# Altium schematic symbol library 3digit_7seg_display.SchLib: 2 symbols
Pins are listed as number, name and electrical type; pins without a type are passive.

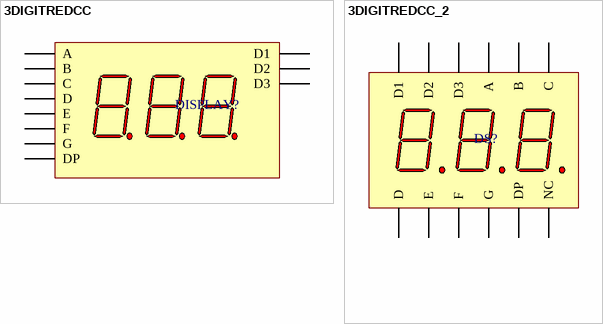
[diagram p0: symbols 3DIGITREDCC to 3DIGITREDCC_2]

## 3DIGITREDCC
designator DISPLAY?
7-Segment Display; MinimumIntensity: 360 ucd; Note: IF = 5 mA; Note: Pins 1 and 6 are redundant Cathodes.; Published: 8-Jun-2000; LatestRevisionDate: 17-Dec-2003; LatestRevisionNote: Schematic revised, PCB Footprint replaced.; DatasheetVersion: 19-Feb-2002; PackageVersion: 11-Feb-2002; PackageReference: A; Publisher: Altium Limited; PackageDescription: LED, 7-Segment Display, 7.62 mm, RHD; 10 Leads; Row Space 5.08 mm; Pitch 2.54 mm; Colour: High Efficiency Red (HER); ComponentLink1Description: Manufacturer Link; ComponentLink1URL: http://www.agilent.com/
footprint 3DIGITDISPLAY
pins: 1 E "Anode", 2 D "Anode", 3 DP "Anode", 4 C "Anode", 5 G "Anode", 7 B "Anode", 8 D3 "Anode", 9 D2 "Anode", 10 F "Anode", 11 A "Anode", 12 D1 "Anode"

## 3DIGITREDCC_2
designator DS?
7-Segment Display; MinimumIntensity: 360 ucd; Note: IF = 5 mA; Colour: High Efficiency Red (HER); Note: Pins 1 and 6 are redundant Cathodes.; Published: 8-Jun-2000; LatestRevisionDate: 17-Dec-2003; LatestRevisionNote: Schematic revised, PCB Footprint replaced.; DatasheetVersion: 19-Feb-2002; PackageVersion: 11-Feb-2002; PackageReference: A; Publisher: Altium Limited; PackageDescription: LED, 7-Segment Display, 7.62 mm, RHD; 10 Leads; Row Space 5.08 mm; Pitch 2.54 mm; ComponentLink1Description: Manufacturer Link; ComponentLink1URL: http://www.agilent.com/
footprint A (LED, 7-Segment Display, 7.62 mm, RHD; 10 Leads; Row Space 5.08 mm; Pitch 2.54 mm)
simulation model HDSP_A213 (SUBCKT)
pins: 7 B "Anode", 7 DP "Anode", 7 C "Anode", 7 NC "Anode", 7 D2 "Anode", 7 D3 "Anode", 9 A "Anode", 9 G "Anode", 9 D1 "Anode", 10 F "Anode", 11 E "Anode", 12 D "Anode"